# Altium schematic symbol library IC.SchLib: 8 symbols
Pins are listed as number, name and electrical type; pins without a type are passive.

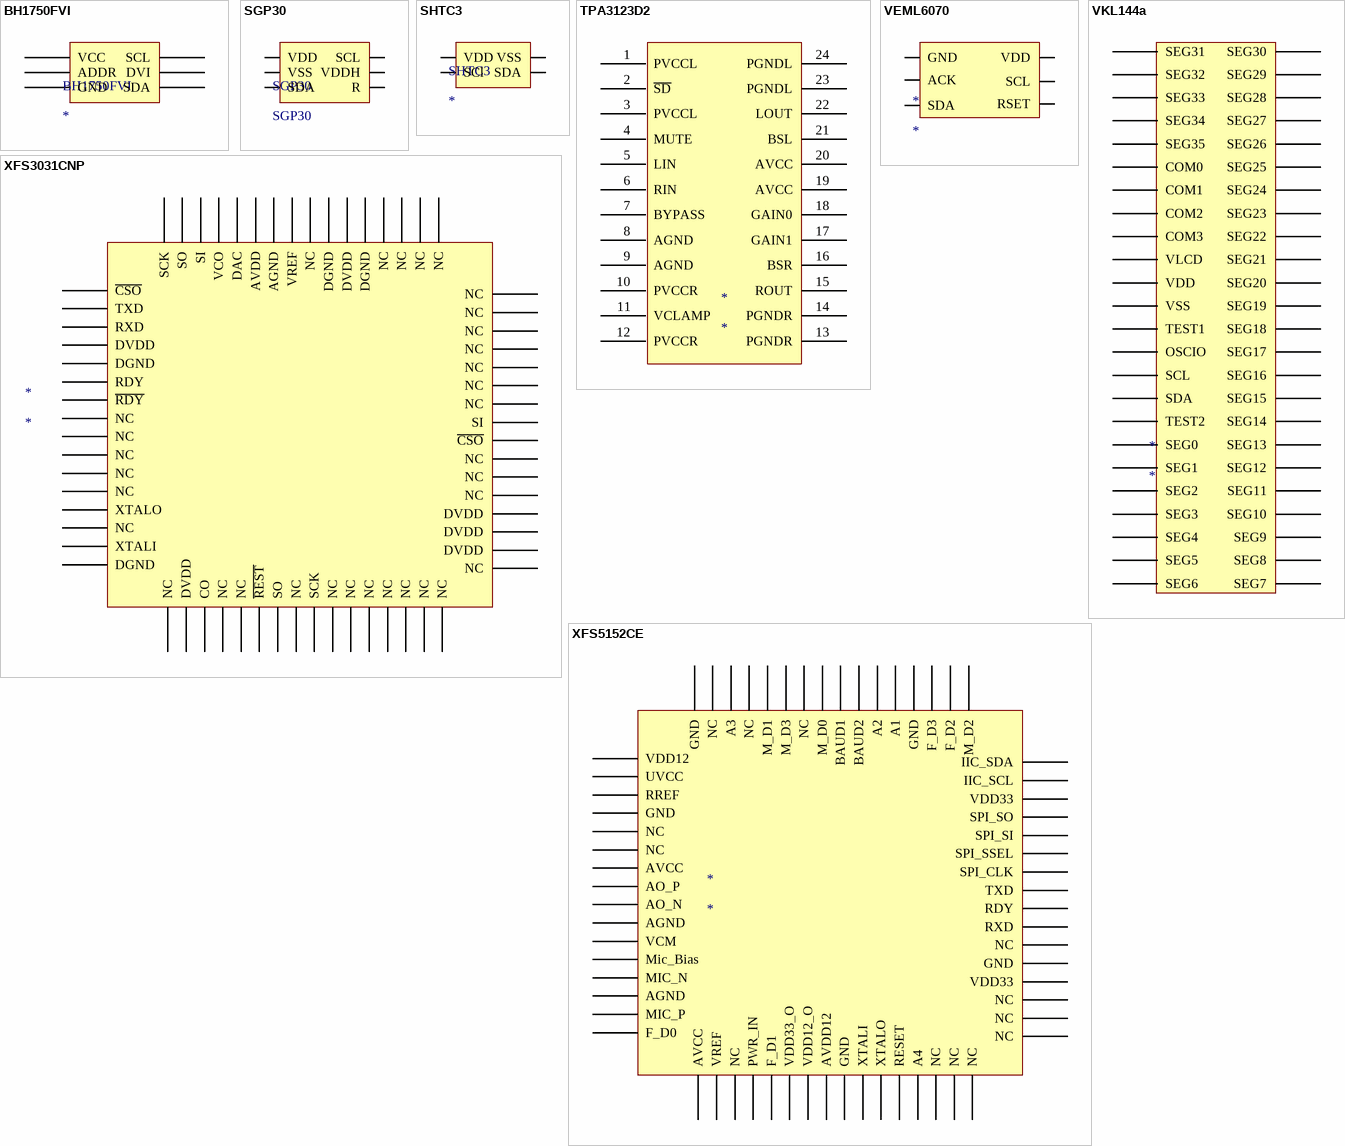
[diagram p0: symbols BH1750FVI to XFS5152CE]

## BH1750FVI
designator BH1750FVI
footprint BH1750FVI
pins: 1 VCC, 2 ADDR, 3 GND, 4 SDA, 5 DVI, 6 SCL

## SGP30
designator SGP30
footprint DFN6
pins: 1 VDD, 2 VSS, 3 SDA, 4 R, 5 VDDH, 6 SCL

## SHTC3
designator SHTC3
footprint SHTC3
pins: 0 VDD, 1 SCl, 2 SDA, 3 VSS

## TPA3123D2
designator *
footprint TSSOP24
pins: 1 PVCCL, 2 ~{SD}, 3 PVCCL, 4 MUTE, 5 LIN, 6 RIN, 7 BYPASS, 8 AGND, 9 AGND, 10 PVCCR, 11 VCLAMP, 12 PVCCR, 13 PGNDR, 14 PGNDR, 15 ROUT, 16 BSR, 17 GAIN1, 18 GAIN0, 19 AVCC, 20 AVCC, 21 BSL, 22 LOUT, 23 PGNDL, 24 PGNDL

## VEML6070
designator *
footprint VEML6070
pins: 1 GND, 2 ACK, 3 SDA, 4 RSET, 5 SCL, 6 VDD

## VKL144a
designator *
footprint VKL144a
pins: 1 SEG31, 2 SEG32, 3 SEG33, 4 SEG34, 5 SEG35, 6 COM0, 7 COM1, 8 COM2, 9 COM3, 10 VLCD, 11 VDD, 12 VSS, 13 TEST1, 14 OSCIO, 15 SCL, 16 SDA, 17 TEST2, 18 SEG0, 19 SEG1, 20 SEG2, 21 SEG3, 22 SEG4, 23 SEG5, 24 SEG6, 25 SEG7, 26 SEG8, 27 SEG9, 28 SEG10, 29 SEG11, 30 SEG12, 31 SEG13, 32 SEG14, 33 SEG15, 34 SEG16, 35 SEG17, 36 SEG18, 37 SEG19, 38 SEG20, 39 SEG21, 40 SEG22, 41 SEG23, 42 SEG24, 43 SEG25, 44 SEG26, 45 SEG27, 46 SEG28, 47 SEG29, 48 SEG30

## XFS3031CNP
designator *
footprint LQFP64S
pins: 1 ~{CSO}, 2 TXD, 3 RXD, 4 DVDD, 5 DGND, 6 RDY, 7 ~{RDY}, 8 NC, 9 NC, 10 NC, 11 NC, 12 NC, 13 XTALO, 14 NC, 15 XTALI, 16 DGND, 17 NC, 18 DVDD, 19 CO, 20 NC, 21 NC, 22 ~{REST}, 23 SO, 24 NC, 25 SCK, 26 NC, 27 NC, 28 NC, 29 NC, 30 NC, 31 NC, 32 NC, 33 NC, 34 DVDD, 35 DVDD, 36 DVDD, 37 NC, 38 NC, 39 NC, 40 ~{CSO}, 41 SI, 42 NC, 43 NC, 44 NC, 45 NC, 46 NC, 47 NC, 48 NC, 49 NC, 50 NC, 51 NC, 52 NC, 53 DGND, 54 DVDD, 55 DGND, 56 NC, 57 VREF, 58 AGND, 59 AVDD, 60 DAC, 61 VCO, 62 SI, 63 SO, 64 SCK

## XFS5152CE
designator *
footprint LQFP64S
pins: 1 VDD12, 2 UVCC, 3 RREF, 4 GND, 5 NC, 6 NC, 7 AVCC, 8 AO_P, 9 AO_N, 10 AGND, 11 VCM, 12 Mic_Bias, 13 MIC_N, 14 AGND, 15 MIC_P, 16 F_D0, 17 AVCC, 18 VREF, 19 NC, 20 PWR_IN, 21 F_D1, 22 VDD33_O, 23 VDD12_O, 24 AVDD12, 25 GND, 26 XTALI, 27 XTALO, 28 RESET, 29 A4, 30 NC, 31 NC, 32 NC, 33 NC, 34 NC, 35 NC, 36 VDD33, 37 GND, 38 NC, 39 RXD, 40 RDY, 41 TXD, 42 SPI_CLK, 43 SPI_SSEL, 44 SPI_SI, 45 SPI_SO, 46 VDD33, 47 IIC_SCL, 48 IIC_SDA, 49 M_D2, 50 F_D2, 51 F_D3, 52 GND, 53 A1, 54 A2, 55 BAUD2, 56 BAUD1, 57 M_D0, 58 NC, 59 M_D3, 60 M_D1, 61 NC, 62 A3, 63 NC, 64 GND